# Altium footprint library B3F-1052.PcbLib: 1 footprints
Each footprint in its own frame and in the unit in brackets; x right, y up, seen from the top. Pads: shape width x height; smd on the part's side, far side on the other; paste and mask are expansions set on the pad; w line width, h text height; cw(c..) or ccw(c..) is an arc to the next point about the centre after c.
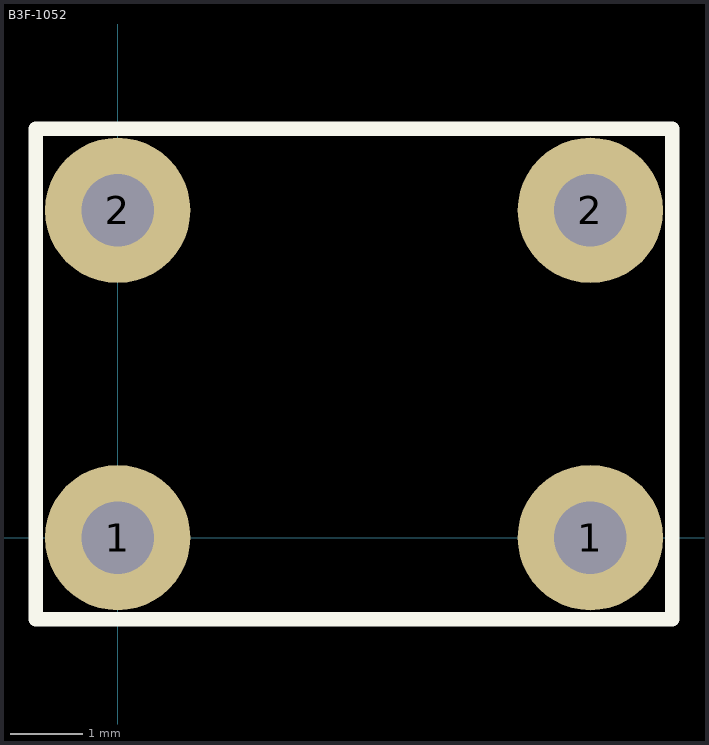
[diagram p0: the footprint, top view; thin cyan lines are the x and y axes]

## B3F-1052 [mm]
pads (4):
  round 2 hole 1: 1(0,0) 1(6.5,0) 2(0,4.5) 2(6.5,4.5)
Top Overlay:
  lines w0.2: -1.125,-1.125 -1.125,5.625 7.625,5.625 7.625,-1.125 -1.125,-1.125
Top Assembly:
  lines w0.1: -1.125,-1.125 7.625,-1.125 7.625,5.625 -1.125,5.625 -1.125,-1.125
  text "'.Designator'" at 2.75,2.217 h0.8
3D body "B3F-1052.step": height 7.3, standoff -3.5, extent -0.6,-0.75 7.1,5.25